# EAGLE library part IRS2004STRPBF (library IRS2004STRPBF)
Infineon IRS2004STRPBF Dual Half Bridge MOSFET Power Driver, 10 20 V, Non-Inverting, SOIC 8-Pin Source: Datasheet <https://www.infineon.com/cms/en/product/power/gate-driver-ics/?>
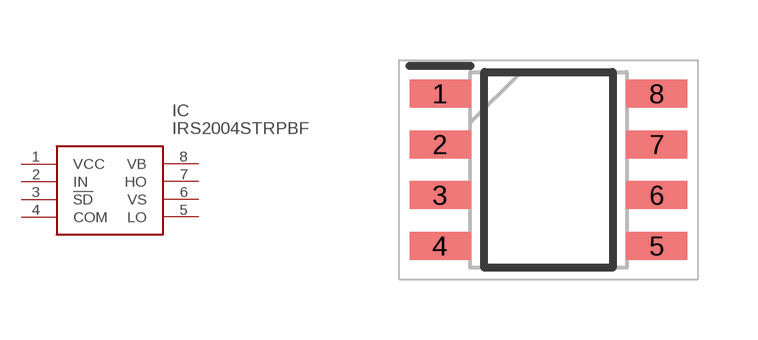
[diagram p0: symbol with the pads of SOIC127P600X175-8N; footprint SOIC127P600X175-8N]

Designator prefix IC

## IRS2004STRPBF (Description: Infineon IRS2004STRPBF Dual Half Bridge MOSFET Power Driver, 10 20 V, Non-Inverting, SOIC 8-Pin; Height: 1.75mm; Manufacturer_Name: Infineon; Manufacturer_Part_Number: IRS2004STRPBF)  [SOIC127P600X175-8N]
1  VCC
2  IN
3  !SD
4  COM
5  LO
6  VS
7  HO
8  VB

## Footprint SOIC127P600X175-8N (pad centres in mm)
8 SOIC
smd 1.525 x 0.7: 1 -2.712,1.905; 2 -2.712,0.635; 3 -2.712,-0.635; 4 -2.712,-1.905; 5 2.712,-1.905; 6 2.712,-0.635; 7 2.712,0.635; 8 2.712,1.905